# Altium integrated library Linear Technology Power Management Switching Regulator LTC1174-LTC3901.IntLib: 2647 symbols (part 111 of 364)
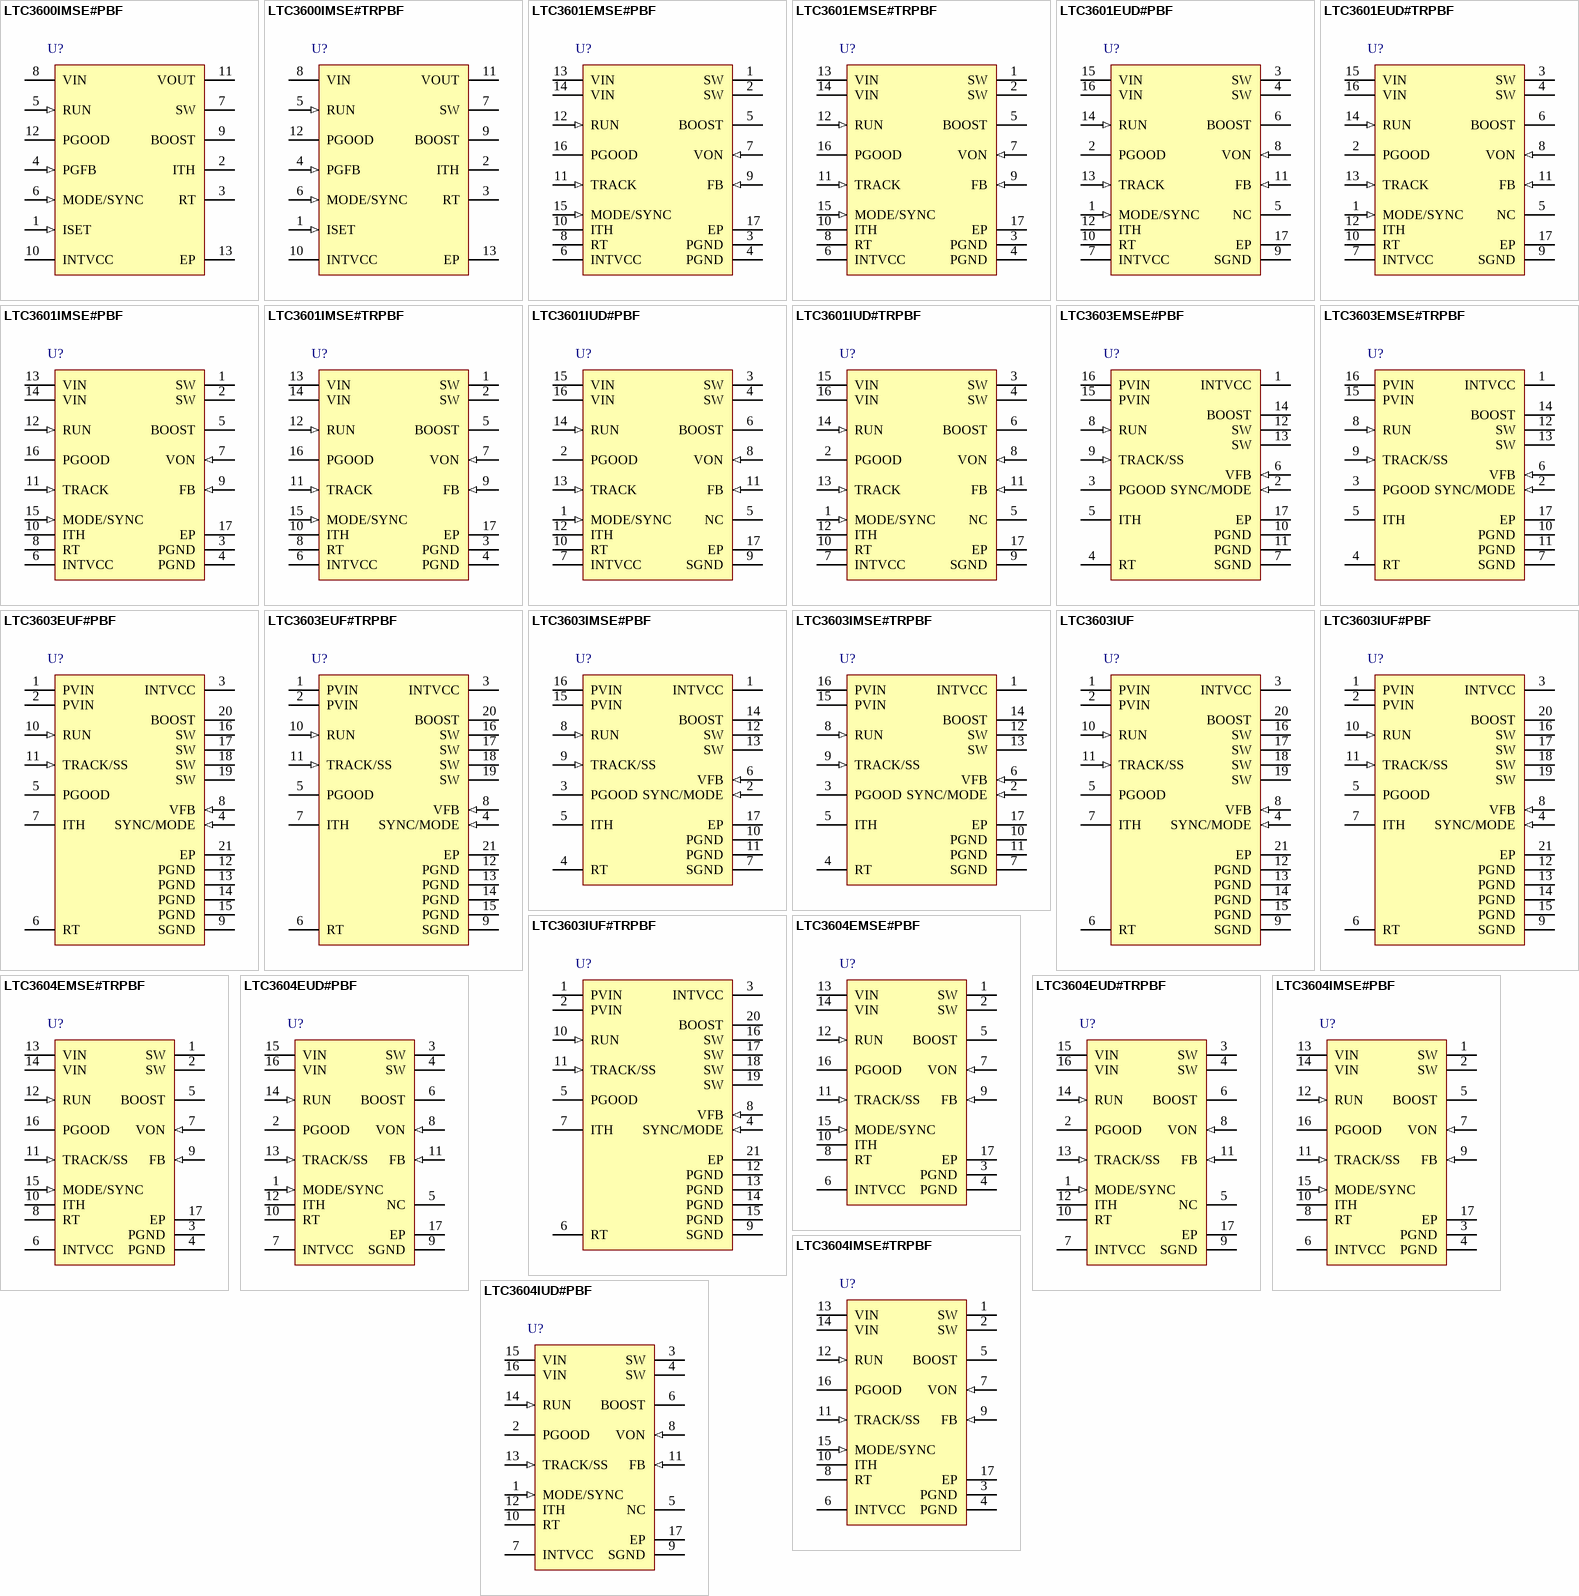
[diagram p271: symbols LTC3600IMSE#PBF to LTC3604IUD#PBF]

## LTC3601EMSE#PBF
designator U?
1.5 A, Monolithic Synchronous Step-Down Regulator, 16-pin SOP (MSE-16-EDP), -40 to 125 degC, Pb-Free; Manufacturer: Linear Technology; PartNumber: LTC3601EMSE#PBF; Frequency Adjust Range: 800kHz - 4MHz; Number of Outputs: 1; DatasheetVersion: Rev. B; PackageVersion: Rev. F, 05/2013; PackageReference: MSE-16; PackageDescription: 16-Pin Plastic MSOP, Exposed Die Pad, Body 4.039 x 3 mm, Pitch 0.5 mm; Supplier 1: Digi-Key; Supplier Part Number 1: LTC3601EMSE#PBF-ND; Supplier 2: Farnell; Supplier Part Number 2: 2295085; Supplier 3: Newark; Supplier Part Number 3: 13T8352; RoHS: TRUE; Mounting Technology: Surface Mount; ComponentLink1Description: Manufacturer URL; ComponentLink1URL: http://www.linear.com/; ComponentLink2Description: Datasheet; ComponentLink2URL: http://cds.linear.com/docs/en/datasheet/3601fb.pdf; ComponentLink3Description: Package Specification; ComponentLink3URL: http://cds.linear.com/docs/en/packaging/05081667_F_MSE16.pdf
footprint LT-MSE-16-EDP_N (SOP, 16-Leads, Body 4.1x3.1mm, Pitch 0.5mm, Thermal Pad 2.95x1.76mm, IPC Medium Density)
footprint LT-MSE-16-EDP_L (SOP, 16-Leads, Body 4.1x3.1mm, Pitch 0.5mm, Thermal Pad 2.95x1.76mm, IPC High Density)
footprint LT-MSE-16-EDP_M (SOP, 16-Leads, Body 4.1x3.1mm, Pitch 0.5mm, Thermal Pad 2.95x1.76mm, IPC Low Density)
pins: 1 SW (power) "Switch Node Output Pin. Connect this pin to the SW side of the external inductor. The normal operation voltage swing of this pin ranges from ground to PVIN.", 2 SW (power) "Switch Node Output Pin. Connect this pin to the SW side of the external inductor. The normal operation voltage swing of this pin ranges from ground to PVIN.", 3 PGND (power) "Power Ground Pin. The (-) terminal of the input bypass capacitor, CIN, and the (-) terminal of the output capacitor, COUT , should be tied to this pin with a low impedance connection. In the QFN package the exposed pad must (See Datasheet)", 4 PGND (power) "Power Ground Pin. The (-) terminal of the input bypass capacitor, CIN, and the (-) terminal of the output capacitor, COUT , should be tied to this pin with a low impedance connection. In the QFN package the exposed pad must (See Datasheet)", 5 BOOST "Boosted Floating Driver Supply Pin. The (+) terminal of the external bootstrap capacitor connects to this pin while the (-) terminal connects to the SW pin. The normal operation voltage swing of this pin ranges from a diode (See Datasheet)", 6 INTVCC (power) "Internal 3.3V Regulator Output Pin. This pin should be decoupled to PGND with a low ESR ceramic capacitor of 1uF or more.", 7 VON (in) "On-Time Voltage Input Pin. This pin sets the voltage trip point for the on-time comparator. Connect this pin to the regulated output to make the ontime proportional to the output voltage when VOUT =< 6V. If VOUT > 6V, (See Datasheet)", 8 RT "Oscillator Frequency Program Pin. Connect an external resistor, between 80k to 400k, from this pin to SGND to program the LTC3601 switching frequency from 800kHz to 4MHz. When RT is tied to INTVCC, the switching frequency (See Datasheet)", 9 FB (in) "Output Voltage Feedback Pin. Input to the error amplifier that compares the feedback voltage to the internal 0.6V reference voltage. Connect this pin to the appropriate resistor divider network to program the desired output (See Datasheet)", 10 ITH "Error Amplifier Output and Switching Regulator Compensation Pin. Connect this pin to appropriate external components to compensate the regulator loop frequency response. Connect this pin to INTVCC to use the default internal (See Datasheet)", 11 TRACK (in) "Output Voltage Tracking and Soft-Start Input Pin. Forcing a voltage below 0.6V on this pin overrides the internal reference input to the error amplifier. The LTC3601 will servo the FB pin to the TRACK voltage under this (See Datasheet)", 12 RUN (in) "Regulator Enable Pin. Enables chip operation by applying a voltage above 1.25V. A voltage below 1V on this pin places the part into shutdown. Do not float this pin.", 13 VIN (power) "Main Power Supply Input Pins. These pins should be closely decoupled to PGND with a low ESR capacitor of 10uF or more.", 14 VIN (power) "Main Power Supply Input Pins. These pins should be closely decoupled to PGND with a low ESR capacitor of 10uF or more.", 15 MODE/SYNC (in) "Mode Selection and External Synchronization Input Pin. This pin places the LTC3601 into forced continuous operation when tied to ground. High efficiency Burst Mode operation is enabled by either floating this pin or by tying (See Datasheet)", 16 PGOOD (hiz) "Open-Drain Power Good Output Pin. PGOOD is pulled to ground when the voltage at the FB pin is not within 8% (typical) of the internal 0.6V reference. PGOOD becomes high impedance once the voltage at the FB pin returns to (See Datasheet)", 17 EP (power) "Signal Ground Pin. This pin should have a low noise connection to reference ground. The feedback resistor network, external compensation network and RT resistor should be connected to this ground. In the MSE package, the (See Datasheet)"

## LTC3601EMSE#TRPBF
designator U?
1.5 A, Monolithic Synchronous Step-Down Regulator, 16-pin SOP (MSE-16-EDP), -40 to 125 degC, Pb-Free, Tape and Reel; Manufacturer: Linear Technology; PartNumber: LTC3601EMSE#TRPBF; Frequency Adjust Range: 800kHz - 4MHz; Number of Outputs: 1; DatasheetVersion: Rev. B; PackageVersion: Rev. F, 05/2013; PackageReference: MSE-16; PackageDescription: 16-Pin Plastic MSOP, Exposed Die Pad, Body 4.039 x 3 mm, Pitch 0.5 mm; Supplier 1: Digi-Key; Supplier Part Number 1: LTC3601EMSE#TRPBF-ND; Supplier 2: Newark; Supplier Part Number 2: 13T8353; Packing: Tape and Reel; RoHS: TRUE; Mounting Technology: Surface Mount; ComponentLink1Description: Manufacturer URL; ComponentLink1URL: http://www.linear.com/; ComponentLink2Description: Datasheet; ComponentLink2URL: http://cds.linear.com/docs/en/datasheet/3601fb.pdf; ComponentLink3Description: Package Specification; ComponentLink3URL: http://cds.linear.com/docs/en/packaging/05081667_F_MSE16.pdf
footprint LT-MSE-16-EDP_N (SOP, 16-Leads, Body 4.1x3.1mm, Pitch 0.5mm, Thermal Pad 2.95x1.76mm, IPC Medium Density)
footprint LT-MSE-16-EDP_L (SOP, 16-Leads, Body 4.1x3.1mm, Pitch 0.5mm, Thermal Pad 2.95x1.76mm, IPC High Density)
footprint LT-MSE-16-EDP_M (SOP, 16-Leads, Body 4.1x3.1mm, Pitch 0.5mm, Thermal Pad 2.95x1.76mm, IPC Low Density)
pins: 1 SW (power) "Switch Node Output Pin. Connect this pin to the SW side of the external inductor. The normal operation voltage swing of this pin ranges from ground to PVIN.", 2 SW (power) "Switch Node Output Pin. Connect this pin to the SW side of the external inductor. The normal operation voltage swing of this pin ranges from ground to PVIN.", 3 PGND (power) "Power Ground Pin. The (-) terminal of the input bypass capacitor, CIN, and the (-) terminal of the output capacitor, COUT , should be tied to this pin with a low impedance connection. In the QFN package the exposed pad must (See Datasheet)", 4 PGND (power) "Power Ground Pin. The (-) terminal of the input bypass capacitor, CIN, and the (-) terminal of the output capacitor, COUT , should be tied to this pin with a low impedance connection. In the QFN package the exposed pad must (See Datasheet)", 5 BOOST "Boosted Floating Driver Supply Pin. The (+) terminal of the external bootstrap capacitor connects to this pin while the (-) terminal connects to the SW pin. The normal operation voltage swing of this pin ranges from a diode (See Datasheet)", 6 INTVCC (power) "Internal 3.3V Regulator Output Pin. This pin should be decoupled to PGND with a low ESR ceramic capacitor of 1uF or more.", 7 VON (in) "On-Time Voltage Input Pin. This pin sets the voltage trip point for the on-time comparator. Connect this pin to the regulated output to make the ontime proportional to the output voltage when VOUT =< 6V. If VOUT > 6V, (See Datasheet)", 8 RT "Oscillator Frequency Program Pin. Connect an external resistor, between 80k to 400k, from this pin to SGND to program the LTC3601 switching frequency from 800kHz to 4MHz. When RT is tied to INTVCC, the switching frequency (See Datasheet)", 9 FB (in) "Output Voltage Feedback Pin. Input to the error amplifier that compares the feedback voltage to the internal 0.6V reference voltage. Connect this pin to the appropriate resistor divider network to program the desired output (See Datasheet)", 10 ITH "Error Amplifier Output and Switching Regulator Compensation Pin. Connect this pin to appropriate external components to compensate the regulator loop frequency response. Connect this pin to INTVCC to use the default internal (See Datasheet)", 11 TRACK (in) "Output Voltage Tracking and Soft-Start Input Pin. Forcing a voltage below 0.6V on this pin overrides the internal reference input to the error amplifier. The LTC3601 will servo the FB pin to the TRACK voltage under this (See Datasheet)", 12 RUN (in) "Regulator Enable Pin. Enables chip operation by applying a voltage above 1.25V. A voltage below 1V on this pin places the part into shutdown. Do not float this pin.", 13 VIN (power) "Main Power Supply Input Pins. These pins should be closely decoupled to PGND with a low ESR capacitor of 10uF or more.", 14 VIN (power) "Main Power Supply Input Pins. These pins should be closely decoupled to PGND with a low ESR capacitor of 10uF or more.", 15 MODE/SYNC (in) "Mode Selection and External Synchronization Input Pin. This pin places the LTC3601 into forced continuous operation when tied to ground. High efficiency Burst Mode operation is enabled by either floating this pin or by tying (See Datasheet)", 16 PGOOD (hiz) "Open-Drain Power Good Output Pin. PGOOD is pulled to ground when the voltage at the FB pin is not within 8% (typical) of the internal 0.6V reference. PGOOD becomes high impedance once the voltage at the FB pin returns to (See Datasheet)", 17 EP (power) "Signal Ground Pin. This pin should have a low noise connection to reference ground. The feedback resistor network, external compensation network and RT resistor should be connected to this ground. In the MSE package, the (See Datasheet)"